# Altium integrated library Module.IntLib: 12 symbols
Pins are listed as number, name and electrical type; pins without a type are passive.

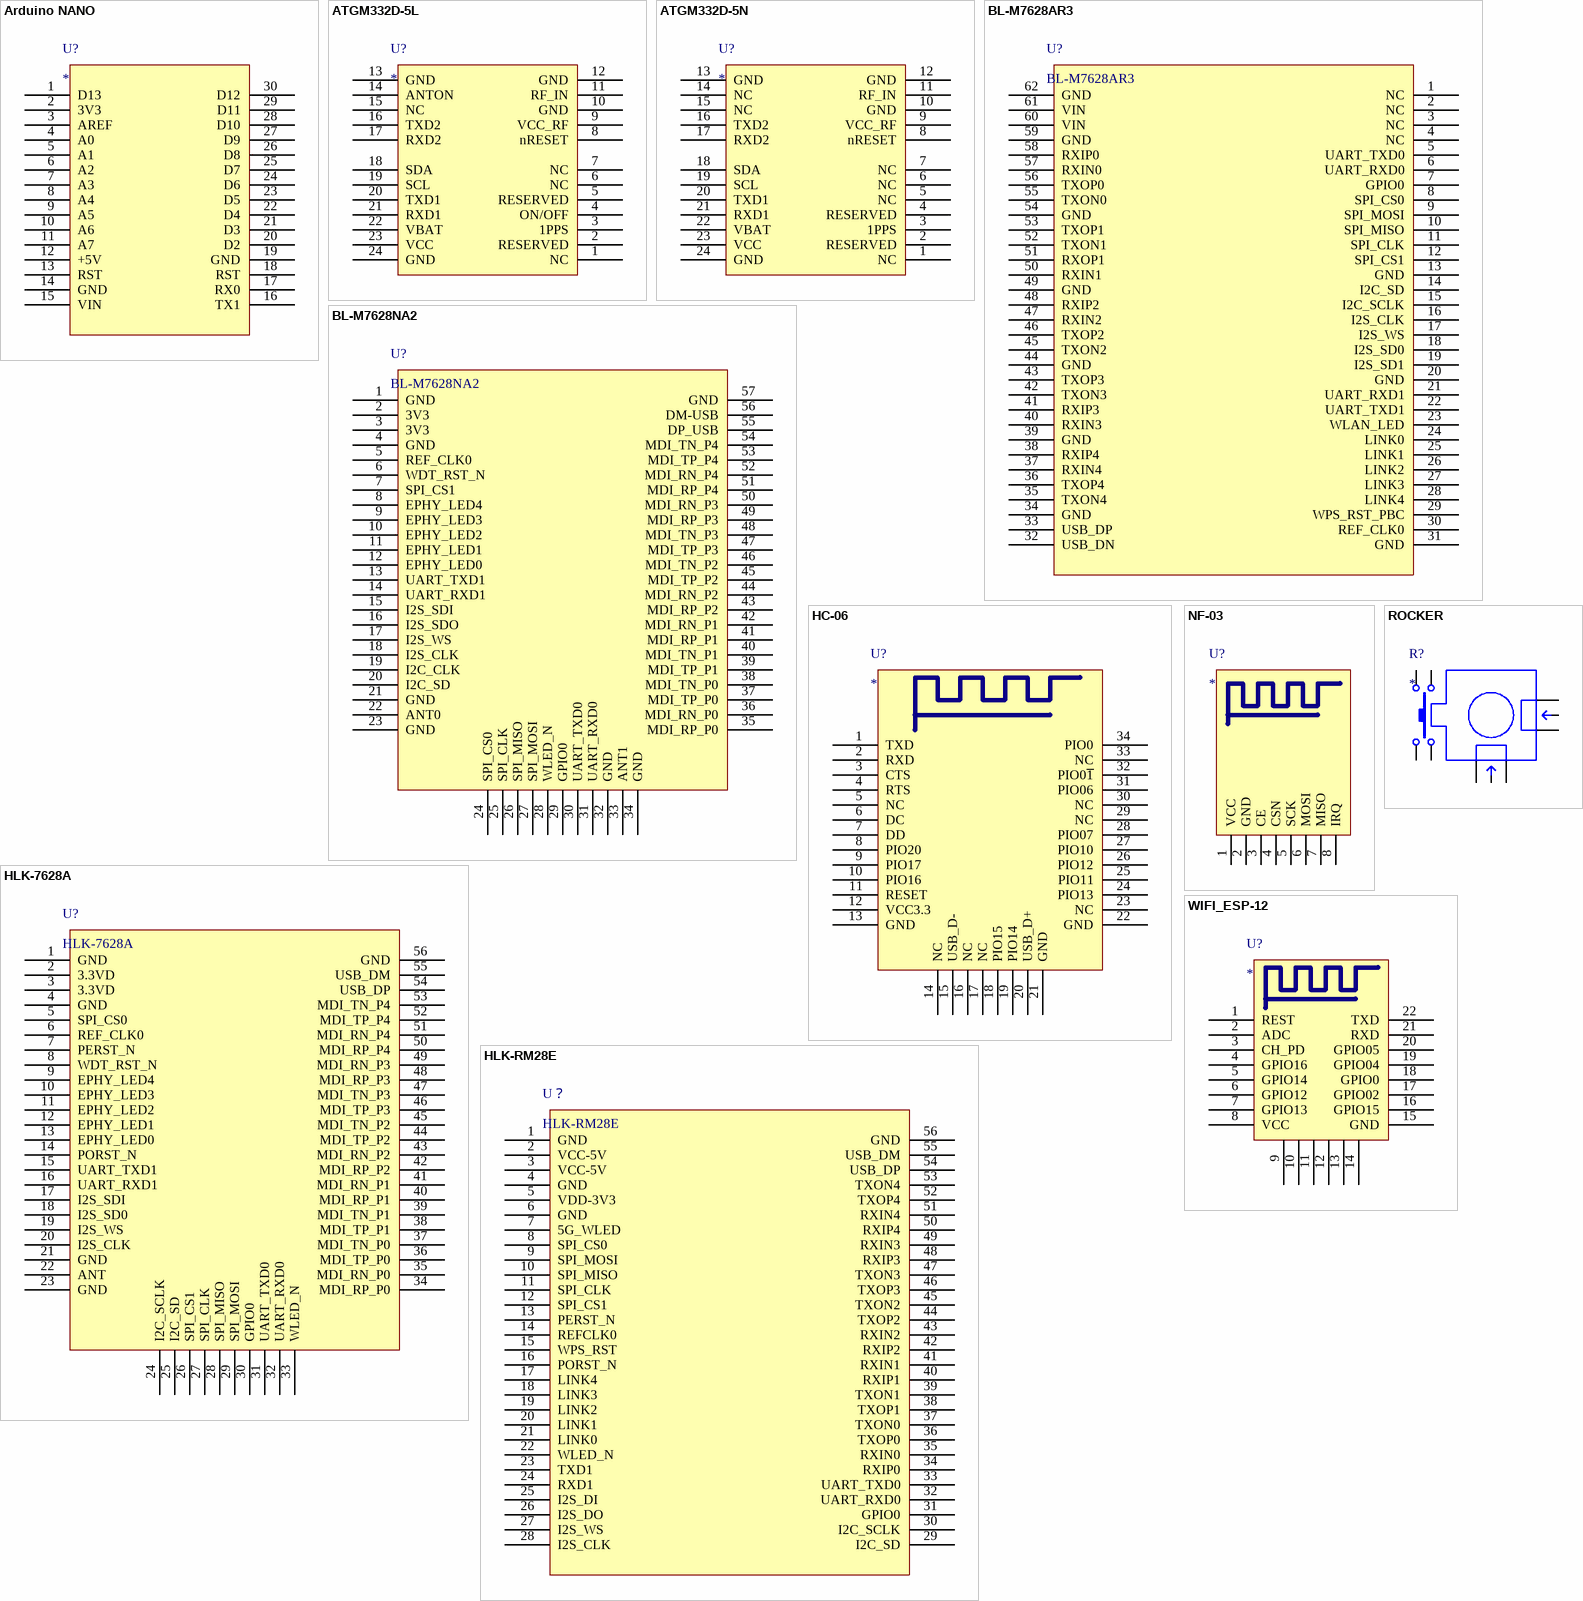
[diagram p0: symbols Arduino NANO to WIFI_ESP-12]

## Arduino NANO
designator U?
footprint ARDUINO_NANO
pins: 1 D13, 2 3V3, 3 AREF, 4 A0, 5 A1, 6 A2, 7 A3, 8 A4, 9 A5, 10 A6, 11 A7, 12 +5V, 13 RST, 14 GND, 15 VIN, 16 TX1, 17 RX0, 18 RST, 19 GND, 20 D2, 21 D3, 22 D4, 23 D5, 24 D6, 25 D7, 26 D8, 27 D9, 28 D10, 29 D11, 30 D12

## ATGM332D-5L
designator U?
footprint GPS-24_12X16X1.1P
pins: 1 NC, 2 RESERVED, 3 1PPS, 4 ON/OFF, 5 RESERVED, 6 NC, 7 NC, 8 nRESET, 9 VCC_RF, 10 GND, 11 RF_IN, 12 GND, 13 GND, 14 ANTON, 15 NC, 16 TXD2, 17 RXD2, 18 SDA, 19 SCL, 20 TXD1, 21 RXD1, 22 VBAT, 23 VCC, 24 GND

## ATGM332D-5N
designator U?
footprint GPS-24_12X16X1.1P
pins: 1 NC, 2 RESERVED, 3 1PPS, 4 RESERVED, 5 NC, 6 NC, 7 NC, 8 nRESET, 9 VCC_RF, 10 GND, 11 RF_IN, 12 GND, 13 GND, 14 NC, 15 NC, 16 TXD2, 17 RXD2, 18 SDA, 19 SCL, 20 TXD1, 21 RXD1, 22 VBAT, 23 VCC, 24 GND

## BL-M7628AR3
designator U?
WIFI Module,B-Link,5G+2.4G
footprint BL-M7628AR3
pins: 1 NC, 2 NC, 3 NC, 4 NC, 5 UART_TXD0, 6 UART_RXD0, 7 GPIO0, 8 SPI_CS0, 9 SPI_MOSI, 10 SPI_MISO, 11 SPI_CLK, 12 SPI_CS1, 13 GND, 14 I2C_SD, 15 I2C_SCLK, 16 I2S_CLK, 17 I2S_WS, 18 I2S_SD0, 19 I2S_SD1, 20 GND, 21 UART_RXD1, 22 UART_TXD1, 23 WLAN_LED, 24 LINK0, 25 LINK1, 26 LINK2, 27 LINK3, 28 LINK4, 29 WPS_RST_PBC, 30 REF_CLK0, 31 GND, 32 USB_DN, 33 USB_DP, 34 GND, 35 TXON4, 36 TXOP4, 37 RXIN4, 38 RXIP4, 39 GND, 40 RXIN3, 41 RXIP3, 42 TXON3, 43 TXOP3, 44 GND, 45 TXON2, 46 TXOP2, 47 RXIN2, 48 RXIP2, 49 GND, 50 RXIN1, 51 RXOP1, 52 TXON1, 53 TXOP1, 54 GND, 55 TXON0, 56 TXOP0, 57 RXIN0, 58 RXIP0, 59 GND, 60 VIN, 61 VIN, 62 GND

## BL-M7628NA2
designator U?
WIFI Module,B-Link,2.4G,MT7628
footprint BL-M7628NA2
pins: 1 GND, 2 3V3, 3 3V3, 4 GND, 5 REF_CLK0, 6 WDT_RST_N, 7 SPI_CS1, 8 EPHY_LED4, 9 EPHY_LED3, 10 EPHY_LED2, 11 EPHY_LED1, 12 EPHY_LED0, 13 UART_TXD1, 14 UART_RXD1, 15 I2S_SDI, 16 I2S_SDO, 17 I2S_WS, 18 I2S_CLK, 19 I2C_CLK, 20 I2C_SD, 21 GND, 22 ANT0, 23 GND, 24 SPI_CS0, 25 SPI_CLK, 26 SPI_MISO, 27 SPI_MOSI, 28 WLED_N, 29 GPIO0, 30 UART_TXD0, 31 UART_RXD0, 32 GND, 33 ANT1, 34 GND, 35 MDI_RP_P0, 36 MDI_RN_P0, 37 MDI_TP_P0, 38 MDI_TN_P0, 39 MDI_TP_P1, 40 MDI_TN_P1, 41 MDI_RP_P1, 42 MDI_RN_P1, 43 MDI_RP_P2, 44 MDI_RN_P2, 45 MDI_TP_P2, 46 MDI_TN_P2, 47 MDI_TP_P3, 48 MDI_TN_P3, 49 MDI_RP_P3, 50 MDI_RN_P3, 51 MDI_RP_P4, 52 MDI_RN_P4, 53 MDI_TP_P4, 54 MDI_TN_P4, 55 DP_USB, 56 DM-USB, 57 GND

## HC-06
designator U?
Bluetooth,HC,HC-06
footprint BT_HC-06
pins: 1 TXD, 2 RXD, 3 CTS, 4 RTS, 5 NC, 6 DC, 7 DD, 8 PIO20, 9 PIO17, 10 PIO16, 11 RESET, 12 VCC3.3, 13 GND, 14 NC, 15 USB_D-, 16 NC, 17 NC, 18 PIO15, 19 PIO14, 20 USB_D+, 21 GND, 22 GND, 23 NC, 24 PIO13, 25 PIO11, 26 PIO12, 27 PIO10, 28 PIO07, 29 NC, 30 NC, 31 PIO06, 32 PIO0~{1}, 33 NC, 34 PIO0

## HLK-7628A
designator U?
WIFI Module,Hi-Link,2.4G,7628A
footprint HLK-7628N
pins: 1 GND, 2 3.3VD, 3 3.3VD, 4 GND, 5 SPI_CS0, 6 REF_CLK0, 7 PERST_N, 8 WDT_RST_N, 9 EPHY_LED4, 10 EPHY_LED3, 11 EPHY_LED2, 12 EPHY_LED1, 13 EPHY_LED0, 14 PORST_N, 15 UART_TXD1, 16 UART_RXD1, 17 I2S_SDI, 18 I2S_SD0, 19 I2S_WS, 20 I2S_CLK, 21 GND, 22 ANT, 23 GND, 24 I2C_SCLK, 25 I2C_SD, 26 SPI_CS1, 27 SPI_CLK, 28 SPI_MISO, 29 SPI_MOSI, 30 GPIO0, 31 UART_TXD0, 32 UART_RXD0, 33 WLED_N, 34 MDI_RP_P0, 35 MDI_RN_P0, 36 MDI_TP_P0, 37 MDI_TN_P0, 38 MDI_TP_P1, 39 MDI_TN_P1, 40 MDI_RP_P1, 41 MDI_RN_P1, 42 MDI_RP_P2, 43 MDI_RN_P2, 44 MDI_TP_P2, 45 MDI_TN_P2, 46 MDI_TP_P3, 47 MDI_TN_P3, 48 MDI_RP_P3, 49 MDI_RN_P3, 50 MDI_RP_P4, 51 MDI_RN_P4, 52 MDI_TP_P4, 53 MDI_TN_P4, 54 USB_DP, 55 USB_DM, 56 GND

## HLK-RM28E
designator U？
WIFI Module,Hi-Link,5G+2.4G
footprint HLK-RM28E
pins: 1 GND, 2 VCC-5V, 3 VCC-5V, 4 GND, 5 VDD-3V3, 6 GND, 7 5G_WLED, 8 SPI_CS0, 9 SPI_MOSI, 10 SPI_MISO, 11 SPI_CLK, 12 SPI_CS1, 13 PERST_N, 14 REFCLK0, 15 WPS_RST, 16 PORST_N, 17 LINK4, 18 LINK3, 19 LINK2, 20 LINK1, 21 LINK0, 22 WLED_N, 23 TXD1, 24 RXD1, 25 I2S_DI, 26 I2S_DO, 27 I2S_WS, 28 I2S_CLK, 29 I2C_SD, 30 I2C_SCLK, 31 GPIO0, 32 UART_RXD0, 33 UART_TXD0, 34 RXIP0, 35 RXIN0, 36 TXOP0, 37 TXON0, 38 TXOP1, 39 TXON1, 40 RXIP1, 41 RXIN1, 42 RXIP2, 43 RXIN2, 44 TXOP2, 45 TXON2, 46 TXOP3, 47 TXON3, 48 RXIP3, 49 RXIN3, 50 RXIP4, 51 RXIN4, 52 TXOP4, 53 TXON4, 54 USB_DP, 55 USB_DM, 56 GND

## NF-03
designator U?
NRF24L01+ MODULE
footprint 2.4G_NF-03 (NRF4L01+ Module)
pins: 1 VCC, 2 GND, 3 CE, 4 CSN, 5 SCK, 6 MOSI, 7 MISO, 8 IRQ

## ROCKER
designator R?
footprint ROCKER
pins: 1, 2, 3, 4, 5, 6, 7, 8, 9, 10

## WIFI_ESP-12
designator U?
footprint WIFI_ESP-12
pins: 1 REST, 2 ADC, 3 CH_PD, 4 GPIO16, 5 GPIO14, 6 GPIO12, 7 GPIO13, 8 VCC, 9, 10, 11, 12, 13, 14, 15 GND, 16 GPIO15, 17 GPIO02, 18 GPIO0, 19 GPIO04, 20 GPIO05, 21 RXD, 22 TXD

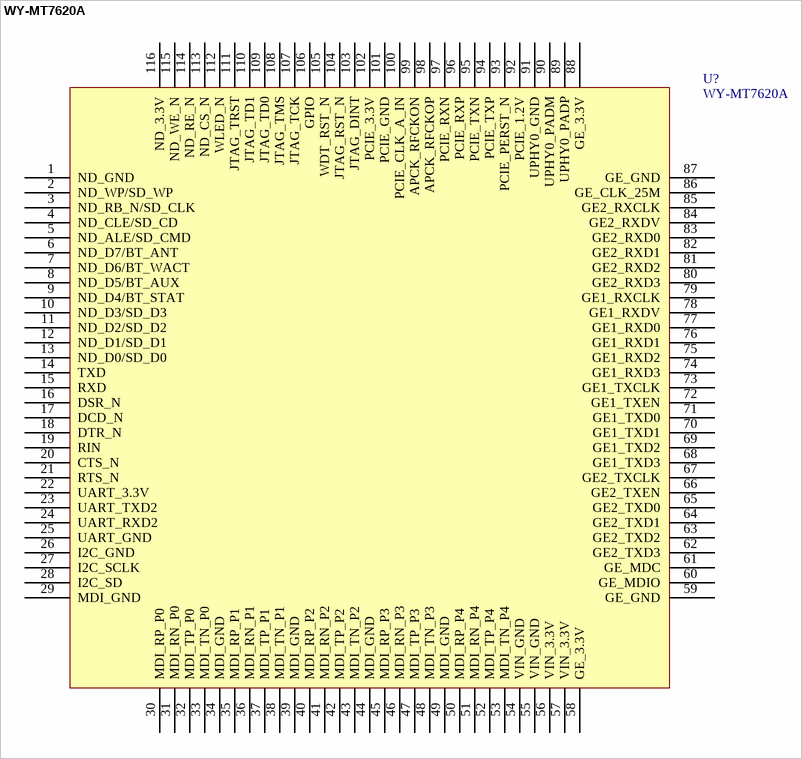
[diagram p1: symbol WY-MT7620A]

## WY-MT7620A
designator U?
WIFI Module,Hi-Wooya,2.4G,MT7620A
footprint WIFI_MT7620A_CORE-40_40X40
pins: 1 ND_GND, 2 ND_WP/SD_WP, 3 ND_RB_N/SD_CLK, 4 ND_CLE/SD_CD, 5 ND_ALE/SD_CMD, 6 ND_D7/BT_ANT, 7 ND_D6/BT_WACT, 8 ND_D5/BT_AUX, 9 ND_D4/BT_STAT, 10 ND_D3/SD_D3, 11 ND_D2/SD_D2, 12 ND_D1/SD_D1, 13 ND_D0/SD_D0, 14 TXD, 15 RXD, 16 DSR_N, 17 DCD_N, 18 DTR_N, 19 RIN, 20 CTS_N, 21 RTS_N, 22 UART_3.3V, 23 UART_TXD2, 24 UART_RXD2, 25 UART_GND, 26 I2C_GND, 27 I2C_SCLK, 28 I2C_SD, 29 MDI_GND, 30 MDI_RP_P0, 31 MDI_RN_P0, 32 MDI_TP_P0, 33 MDI_TN_P0, 34 MDI_GND, 35 MDI_RP_P1, 36 MDI_RN_P1, 37 MDI_TP_P1, 38 MDI_TN_P1, 39 MDI_GND, 40 MDI_RP_P2, 41 MDI_RN_P2, 42 MDI_TP_P2, 43 MDI_TN_P2, 44 MDI_GND, 45 MDI_RP_P3, 46 MDI_RN_P3, 47 MDI_TP_P3, 48 MDI_TN_P3, 49 MDI_GND, 50 MDI_RP_P4, 51 MDI_RN_P4, 52 MDI_TP_P4, 53 MDI_TN_P4, 54 VIN_GND, 55 VIN_GND, 56 VIN_3.3V, 57 VIN_3.3V, 58 GE_3.3V, 59 GE_GND, 60 GE_MDIO, 61 GE_MDC, 62 GE2_TXD3, 63 GE2_TXD2, 64 GE2_TXD1, 65 GE2_TXD0, 66 GE2_TXEN, 67 GE2_TXCLK, 68 GE1_TXD3, 69 GE1_TXD2, 70 GE1_TXD1, 71 GE1_TXD0, 72 GE1_TXEN, 73 GE1_TXCLK, 74 GE1_RXD3, 75 GE1_RXD2, 76 GE1_RXD1, 77 GE1_RXD0, 78 GE1_RXDV, 79 GE1_RXCLK, 80 GE2_RXD3, 81 GE2_RXD2, 82 GE2_RXD1, 83 GE2_RXD0, 84 GE2_RXDV, 85 GE2_RXCLK, 86 GE_CLK_25M, 87 GE_GND, 88 GE_3.3V, 89 UPHY0_PADP, 90 UPHY0_PADM, 91 UPHY0_GND, 92 PCIE_1.2V, 93 PCIE_PERST_N, 94 PCIE_TXP, 95 PCIE_TXN, 96 PCIE_RXP, 97 PCIE_RXN, 98 APCK_RFCKOP, 99 APCK_RFCKON, 100 PCIE_CLK_A_IN, 101 PCIE_GND, 102 PCIE_3.3V, 103 JTAG_DINT, 104 JTAG_RST_N, 105 WDT_RST_N, 106 GPIO, 107 JTAG_TCK, 108 JTAG_TMS, 109 JTAG_TD0, 110 JTAG_TD1, 111 JTAG_TRST, 112 WLED_N, 113 ND_CS_N, 114 ND_RE_N, 115 ND_WE_N, 116 ND_3.3V